# Altium integrated library ON Semi Schottky Diodes & Schottky Rectifiers.IntLib: 755 symbols (part 9 of 17)
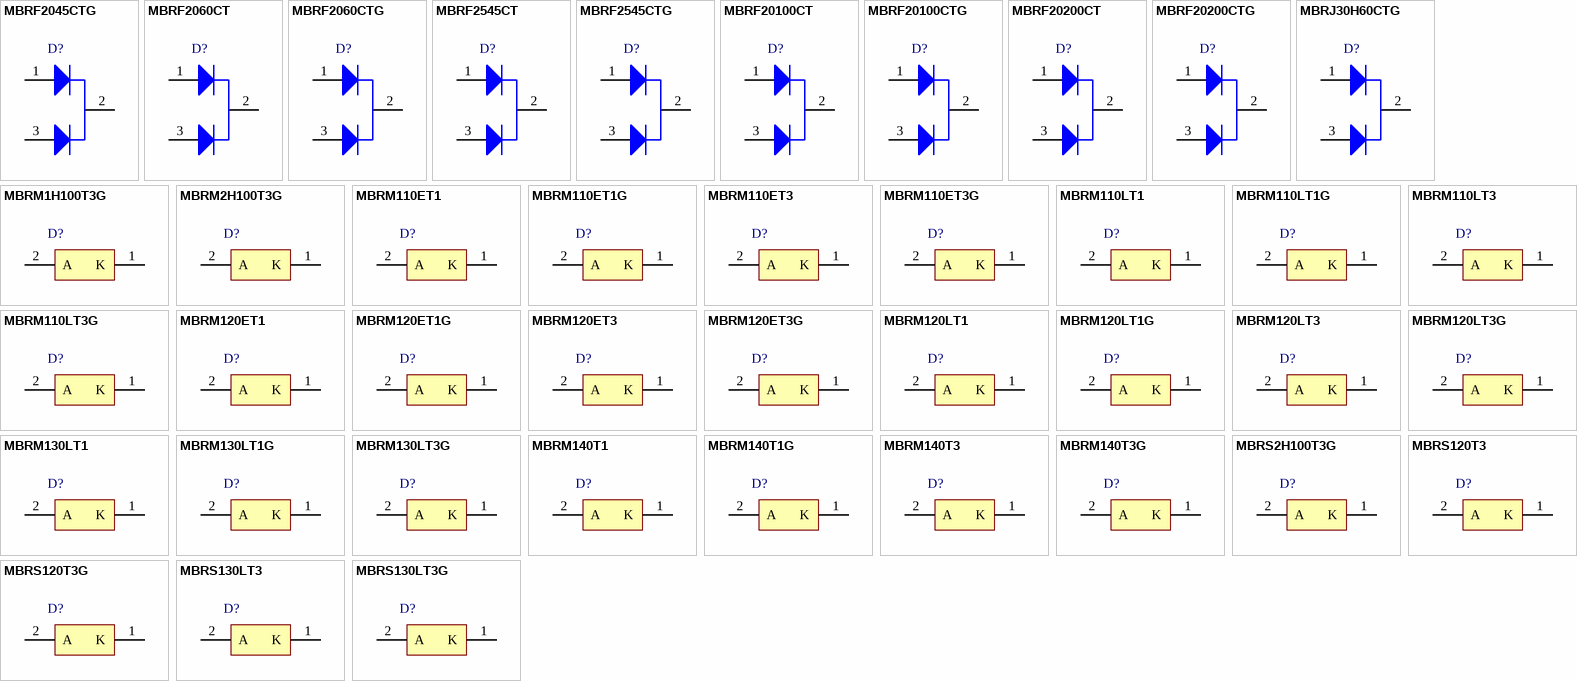
[diagram p27: symbols MBRF2045CTG to MBRS130LT3G]

## MBRM120LT3G
designator D?
Schottky Power Rectifier, 2-Pin Powermite, Pb-Free, Tape and Reel; Manufacturer: On Semiconductor; PartNumber: MBRM120LT3G; Configuration: Single; IFSM Max (A): 50; DatasheetVersion: Rev. 7; PackageVersion: Rev. F, 05/2013; PackageReference: POWERMITE-2-457-04; PackageDescription: 2-Pin POWERMITE, Body 1.965 x 1.9 mm; Supplier 1: Digi-Key; Supplier Part Number 1: MBRM120LT3GOSTR-ND; Supplier 2: Digi-Key; Supplier Part Number 2: MBRM120LT3GOSCT-ND; Supplier 3: Digi-Key; Supplier Part Number 3: MBRM120LT3GOSDKR-ND; Supplier 4: Farnell; Supplier Part Number 4: 1459064; Supplier 5: Farnell; Supplier Part Number 5: 1459064RL; Supplier 6: Newark; Supplier Part Number 6: 48K7497; Supplier 7: Newark; Supplier Part Number 7: 83H7268; Supplier 8: Mouser; Supplier Part Number 8: 863-MBRM120LT3G; Packing: Tape and Reel; RoHS: TRUE; Mounting Technology: Surface Mount; ComponentLink1Description: Manufacturer URL; ComponentLink1URL: http://www.onsemi.com/; ComponentLink2Description: Datasheet; ComponentLink2URL: http://www.onsemi.cn/pub_link/Collateral/MBRM120L-D.PDF; ComponentLink3Description: Package Specification; ComponentLink3URL: http://www.onsemi.com/pub_link/Collateral/457-04.PDF
footprint ONSC-POWERMITE-2-457-04_D_V (POWERMITE, 2-Leads, Body 1.965x1.9mm)
pins: 1 K, 2 A

## MBRM130LT1
designator D?
Schottky Power Rectifier, 2-Pin Powermite, Tape and Reel; Manufacturer: On Semiconductor; PartNumber: MBRM130LT1; Configuration: Single; IFSM Max (A): 50; DatasheetVersion: Rev. 5; PackageVersion: Rev. F, 05/2013; PackageReference: POWERMITE-2-457-04; PackageDescription: 2-Pin POWERMITE, Body 1.965 x 1.9 mm; Supplier 1: Digi-Key; Supplier Part Number 1: MBRM130LT1OSTR-ND; Supplier 2: Digi-Key; Supplier Part Number 2: MBRM130LT1OSCT-ND; Supplier 3: Digi-Key; Supplier Part Number 3: MBRM130LT1OSDKR-ND; Packing: Tape and Reel; RoHS: FALSE; Mounting Technology: Surface Mount; ComponentLink1Description: Manufacturer URL; ComponentLink1URL: http://www.onsemi.com/; ComponentLink2Description: Datasheet; ComponentLink2URL: http://www.onsemi.cn/pub_link/Collateral/MBRM130L-D.PDF; ComponentLink3Description: Package Specification; ComponentLink3URL: http://www.onsemi.com/pub_link/Collateral/457-04.PDF
footprint ONSC-POWERMITE-2-457-04_D_V (POWERMITE, 2-Leads, Body 1.965x1.9mm)
pins: 1 K, 2 A

## MBRM130LT1G
designator D?
Schottky Power Rectifier, 2-Pin Powermite, Pb-Free, Tape and Reel; Manufacturer: On Semiconductor; PartNumber: MBRM130LT1G; Configuration: Single; IFSM Max (A): 50; DatasheetVersion: Rev. 5; PackageVersion: Rev. F, 05/2013; PackageReference: POWERMITE-2-457-04; PackageDescription: 2-Pin POWERMITE, Body 1.965 x 1.9 mm; Supplier 1: Digi-Key; Supplier Part Number 1: MBRM130LT1GOSTR-ND; Supplier 2: Digi-Key; Supplier Part Number 2: MBRM130LT1GOSCT-ND; Supplier 3: Digi-Key; Supplier Part Number 3: MBRM130LT1GOSDKR-ND; Supplier 4: Farnell; Supplier Part Number 4: 1651128RL; Supplier 5: Farnell; Supplier Part Number 5: 1651128; Supplier 6: Mouser; Supplier Part Number 6: 863-MBRM130LT1G; Packing: Tape and Reel; RoHS: TRUE; Mounting Technology: Surface Mount; ComponentLink1Description: Manufacturer URL; ComponentLink1URL: http://www.onsemi.com/; ComponentLink2Description: Datasheet; ComponentLink2URL: http://www.onsemi.cn/pub_link/Collateral/MBRM130L-D.PDF; ComponentLink3Description: Package Specification; ComponentLink3URL: http://www.onsemi.com/pub_link/Collateral/457-04.PDF
footprint ONSC-POWERMITE-2-457-04_D_V (POWERMITE, 2-Leads, Body 1.965x1.9mm)
pins: 1 K, 2 A

## MBRM130LT3G
designator D?
Schottky Power Rectifier, 2-Pin Powermite, Pb-Free, Tape and Reel; Manufacturer: On Semiconductor; PartNumber: MBRM130LT3G; Configuration: Single; IFSM Max (A): 50; DatasheetVersion: Rev. 5; PackageVersion: Rev. F, 05/2013; PackageReference: POWERMITE-2-457-04; PackageDescription: 2-Pin POWERMITE, Body 1.965 x 1.9 mm; Supplier 1: Digi-Key; Supplier Part Number 1: MBRM130LT3GOSTR-ND; Supplier 2: Digi-Key; Supplier Part Number 2: MBRM130LT3GOSCT-ND; Supplier 3: Digi-Key; Supplier Part Number 3: MBRM130LT3GOSDKR-ND; Supplier 4: Farnell; Supplier Part Number 4: 1459066RL; Supplier 5: Farnell; Supplier Part Number 5: 1459066; Supplier 6: Newark; Supplier Part Number 6: 98H0594; Supplier 7: Mouser; Supplier Part Number 7: 863-MBRM130LT3G; Packing: Tape and Reel; RoHS: TRUE; Mounting Technology: Surface Mount; ComponentLink1Description: Manufacturer URL; ComponentLink1URL: http://www.onsemi.com/; ComponentLink2Description: Datasheet; ComponentLink2URL: http://www.onsemi.cn/pub_link/Collateral/MBRM130L-D.PDF; ComponentLink3Description: Package Specification; ComponentLink3URL: http://www.onsemi.com/pub_link/Collateral/457-04.PDF
footprint ONSC-POWERMITE-2-457-04_D_V (POWERMITE, 2-Leads, Body 1.965x1.9mm)
pins: 1 K, 2 A

## MBRM140T1
designator D?
Schottky Power Rectifier, 2-Pin Powermite, Tape and Reel; Manufacturer: On Semiconductor; PartNumber: MBRM140T1; Configuration: Single; IFSM Max (A): 50; DatasheetVersion: Rev. 4; PackageVersion: Rev. F, 05/2013; PackageReference: POWERMITE-2-457-04; PackageDescription: 2-Pin POWERMITE, Body 1.965 x 1.9 mm; Supplier 1: Digi-Key; Supplier Part Number 1: MBRM140T1OSCT-ND; Supplier 2: Digi-Key; Supplier Part Number 2: MBRM140T1OSDKR-ND; Packing: Tape and Reel; RoHS: FALSE; Mounting Technology: Surface Mount; ComponentLink1Description: Manufacturer URL; ComponentLink1URL: http://www.onsemi.com/; ComponentLink2Description: Datasheet; ComponentLink2URL: http://www.onsemi.cn/pub/Collateral/MBRM140-D.PDF; ComponentLink3Description: Package Specification; ComponentLink3URL: http://www.onsemi.com/pub_link/Collateral/457-04.PDF
footprint ONSC-POWERMITE-2-457-04_D_V (POWERMITE, 2-Leads, Body 1.965x1.9mm)
pins: 1 K, 2 A

## MBRM140T1G
designator D?
Schottky Power Rectifier, 2-Pin Powermite, Pb-Free, Tape and Reel; Manufacturer: On Semiconductor; PartNumber: MBRM140T1G; Configuration: Single; IFSM Max (A): 50; DatasheetVersion: Rev. 4; PackageVersion: Rev. F, 05/2013; PackageReference: POWERMITE-2-457-04; PackageDescription: 2-Pin POWERMITE, Body 1.965 x 1.9 mm; Supplier 1: Digi-Key; Supplier Part Number 1: MBRM140T1GOSTR-ND; Supplier 2: Digi-Key; Supplier Part Number 2: MBRM140T1GOSCT-ND; Supplier 3: Digi-Key; Supplier Part Number 3: MBRM140T1GOSDKR-ND; Supplier 4: Farnell; Supplier Part Number 4: 1459067RL; Supplier 5: Farnell; Supplier Part Number 5: 2317660; Supplier 6: Farnell; Supplier Part Number 6: 1459067; Supplier 7: Newark; Supplier Part Number 7: 45J0791; Supplier 8: Newark; Supplier Part Number 8: 84K8737; Supplier 9: Mouser; Supplier Part Number 9: 863-MBRM140T1G; Packing: Tape and Reel; RoHS: TRUE; Mounting Technology: Surface Mount; ComponentLink1Description: Manufacturer URL; ComponentLink1URL: http://www.onsemi.com/; ComponentLink2Description: Datasheet; ComponentLink2URL: http://www.onsemi.cn/pub/Collateral/MBRM140-D.PDF; ComponentLink3Description: Package Specification; ComponentLink3URL: http://www.onsemi.com/pub_link/Collateral/457-04.PDF
footprint ONSC-POWERMITE-2-457-04_D_V (POWERMITE, 2-Leads, Body 1.965x1.9mm)
pins: 1 K, 2 A

## MBRM140T3
designator D?
Schottky Power Rectifier, 2-Pin Powermite, Tape and Reel; Manufacturer: On Semiconductor; PartNumber: MBRM140T3; Configuration: Single; IFSM Max (A): 50; DatasheetVersion: Rev. 4; PackageVersion: Rev. F, 05/2013; PackageReference: POWERMITE-2-457-04; PackageDescription: 2-Pin POWERMITE, Body 1.965 x 1.9 mm; Supplier 1: Digi-Key; Supplier Part Number 1: MBRM140T3OSCT-ND; Packing: Tape and Reel; RoHS: FALSE; Mounting Technology: Surface Mount; ComponentLink1Description: Manufacturer URL; ComponentLink1URL: http://www.onsemi.com/; ComponentLink2Description: Datasheet; ComponentLink2URL: http://www.onsemi.cn/pub/Collateral/MBRM140-D.PDF; ComponentLink3Description: Package Specification; ComponentLink3URL: http://www.onsemi.com/pub_link/Collateral/457-04.PDF
footprint ONSC-POWERMITE-2-457-04_D_V (POWERMITE, 2-Leads, Body 1.965x1.9mm)
pins: 1 K, 2 A

## MBRM140T3G
designator D?
Schottky Power Rectifier, 2-Pin Powermite, Pb-Free, Tape and Reel; Manufacturer: On Semiconductor; PartNumber: MBRM140T3G; Configuration: Single; IFSM Max (A): 50; DatasheetVersion: Rev. 4; PackageVersion: Rev. F, 05/2013; PackageReference: POWERMITE-2-457-04; PackageDescription: 2-Pin POWERMITE, Body 1.965 x 1.9 mm; Supplier 1: Digi-Key; Supplier Part Number 1: MBRM140T3GOSTR-ND; Supplier 2: Digi-Key; Supplier Part Number 2: MBRM140T3GOSCT-ND; Supplier 3: Digi-Key; Supplier Part Number 3: MBRM140T3GOSDKR-ND; Supplier 4: Farnell; Supplier Part Number 4: 1459068RL; Supplier 5: Farnell; Supplier Part Number 5: 1459068; Supplier 6: Newark; Supplier Part Number 6: 83H7269; Supplier 7: Mouser; Supplier Part Number 7: 863-MBRM140T3G; Packing: Tape and Reel; RoHS: TRUE; Mounting Technology: Surface Mount; ComponentLink1Description: Manufacturer URL; ComponentLink1URL: http://www.onsemi.com/; ComponentLink2Description: Datasheet; ComponentLink2URL: http://www.onsemi.cn/pub/Collateral/MBRM140-D.PDF; ComponentLink3Description: Package Specification; ComponentLink3URL: http://www.onsemi.com/pub_link/Collateral/457-04.PDF
footprint ONSC-POWERMITE-2-457-04_D_V (POWERMITE, 2-Leads, Body 1.965x1.9mm)
pins: 1 K, 2 A

## MBRS2H100T3G
designator D?
Schottky Power Rectifier, 2-Pin SMB, Pb-Free, Tape and Reel; Manufacturer: On Semiconductor; PartNumber: MBRS2H100T3G; Configuration: Single; IFSM Max (A): 130; DatasheetVersion: Rev. 8; PackageVersion: Rev. J, 07/2012; PackageReference: SMB-2-403A-03; PackageDescription: 2-Pin Small Molded Package, J-Bend Lead, Body 4.33 x 3.625 mm; Supplier 1: Digi-Key; Supplier Part Number 1: MBRS2H100T3GOSTR-ND; Supplier 2: Digi-Key; Supplier Part Number 2: MBRS2H100T3GOSCT-ND; Supplier 3: Digi-Key; Supplier Part Number 3: MBRS2H100T3GOSDKR-ND; Supplier 4: Farnell; Supplier Part Number 4: 2369560; Supplier 5: Farnell; Supplier Part Number 5: 1887078; Supplier 6: Newark; Supplier Part Number 6: 50M2084; Supplier 7: Newark; Supplier Part Number 7: 09R9423; Supplier 8: Mouser; Supplier Part Number 8: 863-MBRS2H100T3G; Packing: Tape and Reel; RoHS: TRUE; Mounting Technology: Surface Mount; ComponentLink1Description: Manufacturer URL; ComponentLink1URL: http://www.onsemi.com/; ComponentLink2Description: Datasheet; ComponentLink2URL: http://www.onsemi.cn/pub_link/Collateral/MBRS2H100-D.PDF; ComponentLink3Description: Package Specification; ComponentLink3URL: http://www.onsemi.com/pub_link/Collateral/403A-03.PDF
footprint ONSC-SMB-2-403A-03_V (Molded, 2-Leads, Body 4.6x3.95mm)
pins: 1 K, 2 A

## MBRS120T3
designator D?
Schottky Power Rectifier, 2-Pin SMB, Tape and Reel; Manufacturer: On Semiconductor; PartNumber: MBRS120T3; Configuration: Single; IFSM Max (A): 40; DatasheetVersion: Rev. 7; PackageVersion: Rev. H, 05/2011; PackageReference: SMB-2-403A-03_H; PackageDescription: 2-Pin Small Molded Package, J-Bend Lead, Body 4.33 x 3.625 mm; Supplier 1: Digi-Key; Supplier Part Number 1: MBRS120T3OSCT-ND; Supplier 2: Digi-Key; Supplier Part Number 2: MBRS120T3OSDKR-ND; Packing: Tape and Reel; RoHS: FALSE; Mounting Technology: Surface Mount; ComponentLink1Description: Manufacturer URL; ComponentLink1URL: http://www.onsemi.com/; ComponentLink2Description: Datasheet; ComponentLink2URL: http://www.onsemi.cn/pub_link/Collateral/MBRS120T3-D.PDF; ComponentLink3Description: Package Specification; ComponentLink3URL: http://www.onsemi.com/pub_link/Collateral/1SMB5913BT3-D.PDF
footprint ONSC-SMB-2-403A-03_H_V (Molded, 2-Leads, Body 4.6x3.95mm)
pins: 1 K, 2 A

## MBRS120T3G
designator D?
Schottky Power Rectifier, 2-Pin SMB, Pb-Free, Tape and Reel; Manufacturer: On Semiconductor; PartNumber: MBRS120T3G; Configuration: Single; IFSM Max (A): 40; DatasheetVersion: Rev. 7; PackageVersion: Rev. H, 05/2011; PackageReference: SMB-2-403A-03_H; PackageDescription: 2-Pin Small Molded Package, J-Bend Lead, Body 4.33 x 3.625 mm; Supplier 1: Digi-Key; Supplier Part Number 1: MBRS120T3GOSTR-ND; Supplier 2: Digi-Key; Supplier Part Number 2: MBRS120T3GOSCT-ND; Supplier 3: Digi-Key; Supplier Part Number 3: MBRS120T3GOSDKR-ND; Supplier 4: Farnell; Supplier Part Number 4: 1459069; Supplier 5: Farnell; Supplier Part Number 5: 1459069RL; Supplier 6: Farnell; Supplier Part Number 6: 2370809; Supplier 7: Newark; Supplier Part Number 7: 98H0595; Supplier 8: Newark; Supplier Part Number 8: 67R1311; Supplier 9: Mouser; Supplier Part Number 9: 863-MBRS120T3G; Packing: Tape and Reel; RoHS: TRUE; Mounting Technology: Surface Mount; ComponentLink1Description: Manufacturer URL; ComponentLink1URL: http://www.onsemi.com/; ComponentLink2Description: Datasheet; ComponentLink2URL: http://www.onsemi.cn/pub_link/Collateral/MBRS120T3-D.PDF; ComponentLink3Description: Package Specification; ComponentLink3URL: http://www.onsemi.com/pub_link/Collateral/1SMB5913BT3-D.PDF
footprint ONSC-SMB-2-403A-03_H_V (Molded, 2-Leads, Body 4.6x3.95mm)
pins: 1 K, 2 A

## MBRS130LT3
designator D?
Schottky Power Rectifier, Surface Mount Power Package, 2-Pin SMB, Tape and Reel; Manufacturer: On Semiconductor; PartNumber: MBRS130LT3; Configuration: Single; IFSM Max (A): 40; DatasheetVersion: Rev. 9; PackageVersion: Rev. H, 05/2011; PackageReference: SMB-2-403A-03_H; PackageDescription: 2-Pin Small Molded Package, J-Bend Lead, Body 4.33 x 3.625 mm; Supplier 1: Digi-Key; Supplier Part Number 1: MBRS130LT3OSCT-ND; Supplier 2: Digi-Key; Supplier Part Number 2: MBRS130LT3OSDKR-ND; Packing: Tape and Reel; RoHS: FALSE; Mounting Technology: Surface Mount; ComponentLink1Description: Manufacturer URL; ComponentLink1URL: http://www.onsemi.com/; ComponentLink2Description: Datasheet; ComponentLink2URL: http://www.onsemi.cn/pub_link/Collateral/MBRS130LT3-D.PDF; ComponentLink3Description: Package Specification; ComponentLink3URL: http://www.onsemi.com/pub_link/Collateral/1SMB5913BT3-D.PDF
footprint ONSC-SMB-2-403A-03_H_V (Molded, 2-Leads, Body 4.6x3.95mm)
pins: 1 K, 2 A

## MBRS130LT3G
designator D?
Schottky Power Rectifier, Surface Mount Power Package, 2-Pin SMB, Pb-Free, Tape and Reel; Manufacturer: On Semiconductor; PartNumber: MBRS130LT3G; Configuration: Single; IFSM Max (A): 40; DatasheetVersion: Rev. 9; PackageVersion: Rev. H, 05/2011; PackageReference: SMB-2-403A-03_H; PackageDescription: 2-Pin Small Molded Package, J-Bend Lead, Body 4.33 x 3.625 mm; Supplier 1: Digi-Key; Supplier Part Number 1: MBRS130LT3GOSTR-ND; Supplier 2: Digi-Key; Supplier Part Number 2: MBRS130LT3GOSCT-ND; Supplier 3: Digi-Key; Supplier Part Number 3: MBRS130LT3GOSDKR-ND; Supplier 4: Farnell; Supplier Part Number 4: 2317651; Supplier 5: Farnell; Supplier Part Number 5: 1562296; Supplier 6: Farnell; Supplier Part Number 6: 2125539; Supplier 7: Newark; Supplier Part Number 7: 34P0442; Supplier 8: Newark; Supplier Part Number 8: 67H6689; Supplier 9: Newark; Supplier Part Number 9: 28X7853; Supplier 10: Mouser; Supplier Part Number 10: 863-MBRS130LT3G; Packing: Tape and Reel; RoHS: TRUE; Mounting Technology: Surface Mount; ComponentLink1Description: Manufacturer URL; ComponentLink1URL: http://www.onsemi.com/; ComponentLink2Description: Datasheet; ComponentLink2URL: http://www.onsemi.cn/pub_link/Collateral/MBRS130LT3-D.PDF; ComponentLink3Description: Package Specification; ComponentLink3URL: http://www.onsemi.com/pub_link/Collateral/1SMB5913BT3-D.PDF
footprint ONSC-SMB-2-403A-03_H_V (Molded, 2-Leads, Body 4.6x3.95mm)
pins: 1 K, 2 A

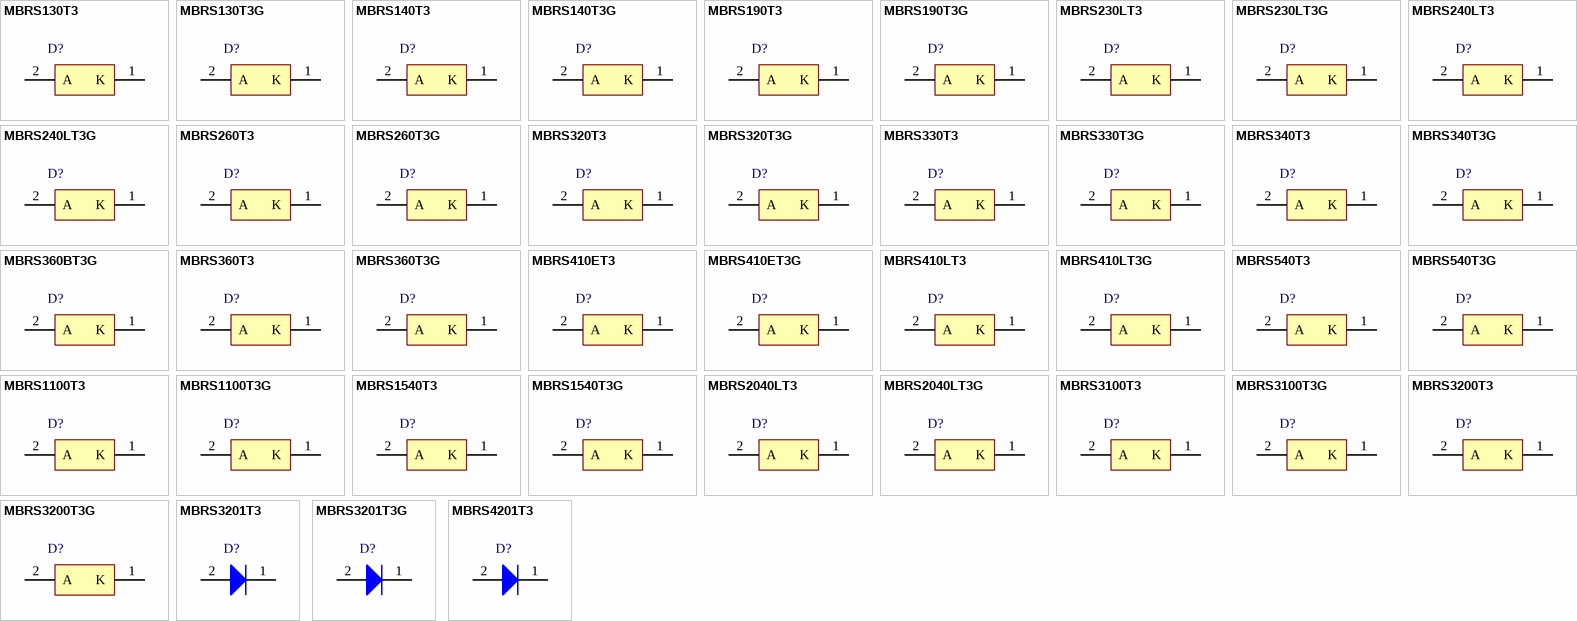
[diagram p10: symbols MBRS130T3 to MBRS4201T3]

## MBRS130T3
designator D?
Schottky Power Rectifier, 2-Pin SMB, Tape and Reel; Manufacturer: On Semiconductor; PartNumber: MBRS130T3; Configuration: Single; IFSM Max (A): 40; DatasheetVersion: Rev. 7; PackageVersion: Rev. J, 07/2012; PackageReference: SMB-2-403A-03; PackageDescription: 2-Pin Small Molded Package, J-Bend Lead, Body 4.33 x 3.625 mm; Supplier 1: Digi-Key; Supplier Part Number 1: MBRS130T3OSTR-ND; Supplier 2: Digi-Key; Supplier Part Number 2: MBRS130T3OSCT-ND; Supplier 3: Digi-Key; Supplier Part Number 3: MBRS130T3OSDKR-ND; Packing: Tape and Reel; RoHS: FALSE; Mounting Technology: Surface Mount; ComponentLink1Description: Manufacturer URL; ComponentLink1URL: http://www.onsemi.com/; ComponentLink2Description: Datasheet; ComponentLink2URL: http://www.onsemi.cn/pub_link/Collateral/MBRS130T3-D.PDF; ComponentLink3Description: Package Specification; ComponentLink3URL: http://www.onsemi.com/pub_link/Collateral/403A-03.PDF
footprint ONSC-SMB-2-403A-03_V (Molded, 2-Leads, Body 4.6x3.95mm)
pins: 1 K, 2 A

## MBRS130T3G
designator D?
Schottky Power Rectifier, 2-Pin SMB, Pb-Free, Tape and Reel; Manufacturer: On Semiconductor; PartNumber: MBRS130T3G; Configuration: Single; IFSM Max (A): 40; DatasheetVersion: Rev. 7; PackageVersion: Rev. J, 07/2012; PackageReference: SMB-2-403A-03; PackageDescription: 2-Pin Small Molded Package, J-Bend Lead, Body 4.33 x 3.625 mm; Supplier 1: Digi-Key; Supplier Part Number 1: MBRS130T3GOSTR-ND; Supplier 2: Digi-Key; Supplier Part Number 2: MBRS130T3GOSCT-ND; Supplier 3: Digi-Key; Supplier Part Number 3: MBRS130T3GOSDKR-ND; Supplier 4: Farnell; Supplier Part Number 4: 1459070; Supplier 5: Farnell; Supplier Part Number 5: 1459070RL; Supplier 6: Farnell; Supplier Part Number 6: 2317693; Supplier 7: Newark; Supplier Part Number 7: 83H7271; Supplier 8: Newark; Supplier Part Number 8: 67R1312; Supplier 9: Mouser; Supplier Part Number 9: 863-MBRS130T3G; Packing: Tape and Reel; RoHS: TRUE; Mounting Technology: Surface Mount; ComponentLink1Description: Manufacturer URL; ComponentLink1URL: http://www.onsemi.com/; ComponentLink2Description: Datasheet; ComponentLink2URL: http://www.onsemi.cn/pub_link/Collateral/MBRS130T3-D.PDF; ComponentLink3Description: Package Specification; ComponentLink3URL: http://www.onsemi.com/pub_link/Collateral/403A-03.PDF
footprint ONSC-SMB-2-403A-03_V (Molded, 2-Leads, Body 4.6x3.95mm)
pins: 1 K, 2 A

## MBRS140T3
designator D?
Schottky Power Rectifier, 2-Pin SMB, Tape and Reel; Manufacturer: On Semiconductor; PartNumber: MBRS140T3; Configuration: Single; IFSM Max (A): 40; DatasheetVersion: Rev. 9; PackageVersion: Rev. H, 05/2011; PackageReference: SMB-2-403A-03_H; PackageDescription: 2-Pin Small Molded Package, J-Bend Lead, Body 4.33 x 3.625 mm; Supplier 1: Digi-Key; Supplier Part Number 1: MBRS140T3OSCT-ND; Supplier 2: Digi-Key; Supplier Part Number 2: MBRS140T3OSDKR-ND; Packing: Tape and Reel; RoHS: FALSE; Mounting Technology: Surface Mount; ComponentLink1Description: Manufacturer URL; ComponentLink1URL: http://www.onsemi.com/; ComponentLink2Description: Datasheet; ComponentLink2URL: http://www.onsemi.cn/pub_link/Collateral/MBRS140T3-D.PDF; ComponentLink3Description: Package Specification; ComponentLink3URL: http://www.onsemi.com/pub_link/Collateral/1SMB5913BT3-D.PDF
footprint ONSC-SMB-2-403A-03_H_V (Molded, 2-Leads, Body 4.6x3.95mm)
pins: 1 K, 2 A

## MBRS140T3G
designator D?
Schottky Power Rectifier, 2-Pin SMB, Pb-Free, Tape and Reel; Manufacturer: On Semiconductor; PartNumber: MBRS140T3G; Configuration: Single; IFSM Max (A): 40; DatasheetVersion: Rev. 9; PackageVersion: Rev. H, 05/2011; PackageReference: SMB-2-403A-03_H; PackageDescription: 2-Pin Small Molded Package, J-Bend Lead, Body 4.33 x 3.625 mm; Supplier 1: Digi-Key; Supplier Part Number 1: MBRS140T3GOSTR-ND; Supplier 2: Digi-Key; Supplier Part Number 2: MBRS140T3GOSCT-ND; Supplier 3: Digi-Key; Supplier Part Number 3: MBRS140T3GOSDKR-ND; Supplier 4: Farnell; Supplier Part Number 4: 2317683; Supplier 5: Farnell; Supplier Part Number 5: 9557237RL; Supplier 6: Farnell; Supplier Part Number 6: 9557237; Supplier 7: Newark; Supplier Part Number 7: 67R1313; Supplier 8: Newark; Supplier Part Number 8: 83H7272; Supplier 9: Newark; Supplier Part Number 9: 28X7854; Supplier 10: Mouser; Supplier Part Number 10: 863-MBRS140T3G; Packing: Tape and Reel; RoHS: TRUE; Mounting Technology: Surface Mount; ComponentLink1Description: Manufacturer URL; ComponentLink1URL: http://www.onsemi.com/; ComponentLink2Description: Datasheet; ComponentLink2URL: http://www.onsemi.cn/pub_link/Collateral/MBRS140T3-D.PDF; ComponentLink3Description: Package Specification; ComponentLink3URL: http://www.onsemi.com/pub_link/Collateral/1SMB5913BT3-D.PDF
footprint ONSC-SMB-2-403A-03_H_V (Molded, 2-Leads, Body 4.6x3.95mm)
pins: 1 K, 2 A

## MBRS190T3
designator D?
Schottky Power Rectifier, Surface Mount Power Package, 2-Pin SMB, Tape and Reel; Manufacturer: On Semiconductor; PartNumber: MBRS190T3; Configuration: Single; IFSM Max (A): 50; DatasheetVersion: Rev. 10; PackageVersion: Rev. H, 05/2011; PackageReference: SMB-2-403A-03_H; PackageDescription: 2-Pin Small Molded Package, J-Bend Lead, Body 4.33 x 3.625 mm; Supplier 1: Digi-Key; Supplier Part Number 1: MBRS190T3OSCT-ND; Supplier 2: Digi-Key; Supplier Part Number 2: MBRS190T3OSDKR-ND; Packing: Tape and Reel; RoHS: FALSE; Mounting Technology: Surface Mount; ComponentLink1Description: Manufacturer URL; ComponentLink1URL: http://www.onsemi.com/; ComponentLink2Description: Datasheet; ComponentLink2URL: http://www.onsemi.cn/pub_link/Collateral/MBRS1100T3-D.PDF; ComponentLink3Description: Package Specification; ComponentLink3URL: http://www.onsemi.com/pub_link/Collateral/1SMB5913BT3-D.PDF
footprint ONSC-SMB-2-403A-03_H_V (Molded, 2-Leads, Body 4.6x3.95mm)
pins: 1 K, 2 A

## MBRS190T3G
designator D?
Schottky Power Rectifier, Surface Mount Power Package, 2-Pin SMB, Pb-Free, Tape and Reel; Manufacturer: On Semiconductor; PartNumber: MBRS190T3G; Configuration: Single; IFSM Max (A): 50; DatasheetVersion: Rev. 10; PackageVersion: Rev. H, 05/2011; PackageReference: SMB-2-403A-03_H; PackageDescription: 2-Pin Small Molded Package, J-Bend Lead, Body 4.33 x 3.625 mm; Supplier 1: Digi-Key; Supplier Part Number 1: MBRS190T3GOSTR-ND; Supplier 2: Digi-Key; Supplier Part Number 2: MBRS190T3GOSCT-ND; Supplier 3: Digi-Key; Supplier Part Number 3: MBRS190T3GOSDKR-ND; Supplier 4: Farnell; Supplier Part Number 4: 1459071RL; Supplier 5: Farnell; Supplier Part Number 5: 1459071; Supplier 6: Newark; Supplier Part Number 6: 71J5251; Supplier 7: Mouser; Supplier Part Number 7: 863-MBRS190T3G; Packing: Tape and Reel; RoHS: TRUE; Mounting Technology: Surface Mount; ComponentLink1Description: Manufacturer URL; ComponentLink1URL: http://www.onsemi.com/; ComponentLink2Description: Datasheet; ComponentLink2URL: http://www.onsemi.cn/pub_link/Collateral/MBRS1100T3-D.PDF; ComponentLink3Description: Package Specification; ComponentLink3URL: http://www.onsemi.com/pub_link/Collateral/1SMB5913BT3-D.PDF
footprint ONSC-SMB-2-403A-03_H_V (Molded, 2-Leads, Body 4.6x3.95mm)
pins: 1 K, 2 A

## MBRS230LT3
designator D?
Schottky Power Rectifier, 2-Pin SMB, Tape and Reel; Manufacturer: On Semiconductor; PartNumber: MBRS230LT3; Configuration: Single; IFSM Max (A): 40; DatasheetVersion: Rev. 3; PackageVersion: Rev. D; PackageReference: SMB-2-403A-03_D; PackageDescription: 2-Pin Small Molded Package, J-Bend Lead, Body 4.315 x 3.555 mm; Supplier 1: Digi-Key; Supplier Part Number 1: MBRS230LT3-ND; Packing: Tape and Reel; RoHS: FALSE; Mounting Technology: Surface Mount; ComponentLink1Description: Manufacturer URL; ComponentLink1URL: http://www.onsemi.com/; ComponentLink2Description: Datasheet; ComponentLink2URL: http://www.onsemi.cn/pub_link/Collateral/MBRS230LT3-D.PDF; ComponentLink3Description: Package Specification; ComponentLink3URL: http://www.onsemi.cn/pub_link/Collateral/MBRS230LT3-D.PDF
footprint ONSC-SMB-2-403A-03_D_V (Molded, 2-Leads, Body 4.57x3.81mm)
pins: 1 K, 2 A

## MBRS230LT3G
designator D?
Schottky Power Rectifier, 2-Pin SMB, Pb-Free, Tape and Reel; Manufacturer: On Semiconductor; PartNumber: MBRS230LT3G; Configuration: Single; IFSM Max (A): 40; DatasheetVersion: Rev. 3; PackageVersion: Rev. D; PackageReference: SMB-2-403A-03_D; PackageDescription: 2-Pin Small Molded Package, J-Bend Lead, Body 4.315 x 3.555 mm; Supplier 1: Digi-Key; Supplier Part Number 1: MBRS230LT3GOSTR-ND; Supplier 2: Digi-Key; Supplier Part Number 2: MBRS230LT3GOSCT-ND; Supplier 3: Digi-Key; Supplier Part Number 3: MBRS230LT3GOSDKR-ND; Supplier 4: Farnell; Supplier Part Number 4: 1885831; Supplier 5: Newark; Supplier Part Number 5: 45J0792; Supplier 6: Newark; Supplier Part Number 6: 10N9421; Supplier 7: Mouser; Supplier Part Number 7: 863-MBRS230LT3G; Packing: Tape and Reel; RoHS: TRUE; Mounting Technology: Surface Mount; ComponentLink1Description: Manufacturer URL; ComponentLink1URL: http://www.onsemi.com/; ComponentLink2Description: Datasheet; ComponentLink2URL: http://www.onsemi.cn/pub_link/Collateral/MBRS230LT3-D.PDF; ComponentLink3Description: Package Specification; ComponentLink3URL: http://www.onsemi.cn/pub_link/Collateral/MBRS230LT3-D.PDF
footprint ONSC-SMB-2-403A-03_D_V (Molded, 2-Leads, Body 4.57x3.81mm)
pins: 1 K, 2 A

## MBRS240LT3
designator D?
Schottky Power Rectifier, 2-Pin SMB, Tape and Reel; Manufacturer: On Semiconductor; PartNumber: MBRS240LT3; Configuration: Single; IFSM Max (A): 25; DatasheetVersion: Rev. 7; PackageVersion: Rev. H, 05/2011; PackageReference: SMB-2-403A-03_H; PackageDescription: 2-Pin Small Molded Package, J-Bend Lead, Body 4.33 x 3.625 mm; Supplier 1: Digi-Key; Supplier Part Number 1: MBRS240LT3OSCT-ND; Supplier 2: Digi-Key; Supplier Part Number 2: MBRS240LT3OSDKR-ND; Packing: Tape and Reel; RoHS: FALSE; Mounting Technology: Surface Mount; ComponentLink1Description: Manufacturer URL; ComponentLink1URL: http://www.onsemi.com/; ComponentLink2Description: Datasheet; ComponentLink2URL: http://www.onsemi.cn/pub_link/Collateral/MBRS240LT3-D.PDF; ComponentLink3Description: Package Specification; ComponentLink3URL: http://www.onsemi.com/pub_link/Collateral/1SMB5913BT3-D.PDF
footprint ONSC-SMB-2-403A-03_H_V (Molded, 2-Leads, Body 4.6x3.95mm)
pins: 1 K, 2 A

## MBRS240LT3G
designator D?
Schottky Power Rectifier, 2-Pin SMB, Pb-Free, Tape and Reel; Manufacturer: On Semiconductor; PartNumber: MBRS240LT3G; Configuration: Single; IFSM Max (A): 25; DatasheetVersion: Rev. 7; PackageVersion: Rev. H, 05/2011; PackageReference: SMB-2-403A-03_H; PackageDescription: 2-Pin Small Molded Package, J-Bend Lead, Body 4.33 x 3.625 mm; Supplier 1: Digi-Key; Supplier Part Number 1: MBRS240LT3GOSTR-ND; Supplier 2: Digi-Key; Supplier Part Number 2: MBRS240LT3GOSCT-ND; Supplier 3: Digi-Key; Supplier Part Number 3: MBRS240LT3GOSDKR-ND; Supplier 4: Farnell; Supplier Part Number 4: 1459073; Supplier 5: Farnell; Supplier Part Number 5: 1459073RL; Supplier 6: Newark; Supplier Part Number 6: 67R1315; Supplier 7: Newark; Supplier Part Number 7: 83H7274; Supplier 8: Mouser; Supplier Part Number 8: 863-MBRS240LT3G; Packing: Tape and Reel; RoHS: TRUE; Mounting Technology: Surface Mount; ComponentLink1Description: Manufacturer URL; ComponentLink1URL: http://www.onsemi.com/; ComponentLink2Description: Datasheet; ComponentLink2URL: http://www.onsemi.cn/pub_link/Collateral/MBRS240LT3-D.PDF; ComponentLink3Description: Package Specification; ComponentLink3URL: http://www.onsemi.com/pub_link/Collateral/1SMB5913BT3-D.PDF
footprint ONSC-SMB-2-403A-03_H_V (Molded, 2-Leads, Body 4.6x3.95mm)
pins: 1 K, 2 A

## MBRS260T3
designator D?
Schottky Power Rectifier, 2-Pin SMB, Tape and Reel; Manufacturer: On Semiconductor; PartNumber: MBRS260T3; Configuration: Single; IFSM Max (A): 60; DatasheetVersion: Rev. 7; PackageVersion: Rev. J, 07/2012; PackageReference: SMB-2-403A-03; PackageDescription: 2-Pin Small Molded Package, J-Bend Lead, Body 4.33 x 3.625 mm; Supplier 1: Digi-Key; Supplier Part Number 1: MBRS260T3OS-ND; Packing: Tape and Reel; RoHS: FALSE; Mounting Technology: Surface Mount; ComponentLink1Description: Manufacturer URL; ComponentLink1URL: http://www.onsemi.com/; ComponentLink2Description: Datasheet; ComponentLink2URL: http://www.onsemi.com/pub_link/Collateral/MBRS260T3-D.PDF; ComponentLink3Description: Package Specification; ComponentLink3URL: http://www.onsemi.com/pub_link/Collateral/403A-03.PDF
footprint ONSC-SMB-2-403A-03_V (Molded, 2-Leads, Body 4.6x3.95mm)
pins: 1 K, 2 A

## MBRS260T3G
designator D?
Schottky Power Rectifier, 2-Pin SMB, Pb-Free, Tape and Reel; Manufacturer: On Semiconductor; PartNumber: MBRS260T3G; Configuration: Single; IFSM Max (A): 60; DatasheetVersion: Rev. 7; PackageVersion: Rev. J, 07/2012; PackageReference: SMB-2-403A-03; PackageDescription: 2-Pin Small Molded Package, J-Bend Lead, Body 4.33 x 3.625 mm; Supplier 1: Digi-Key; Supplier Part Number 1: MBRS260T3GOSTR-ND; Supplier 2: Digi-Key; Supplier Part Number 2: MBRS260T3GOSCT-ND; Supplier 3: Digi-Key; Supplier Part Number 3: MBRS260T3GOSDKR-ND; Supplier 4: Farnell; Supplier Part Number 4: 1459074RL; Supplier 5: Farnell; Supplier Part Number 5: 1459074; Supplier 6: Newark; Supplier Part Number 6: 98H0597; Supplier 7: Mouser; Supplier Part Number 7: 863-MBRS260T3G; Packing: Tape and Reel; RoHS: TRUE; Mounting Technology: Surface Mount; ComponentLink1Description: Manufacturer URL; ComponentLink1URL: http://www.onsemi.com/; ComponentLink2Description: Datasheet; ComponentLink2URL: http://www.onsemi.com/pub_link/Collateral/MBRS260T3-D.PDF; ComponentLink3Description: Package Specification; ComponentLink3URL: http://www.onsemi.com/pub_link/Collateral/403A-03.PDF
footprint ONSC-SMB-2-403A-03_V (Molded, 2-Leads, Body 4.6x3.95mm)
pins: 1 K, 2 A

## MBRS320T3
designator D?
Schottky Power Rectifier, 2-Pin SMC, Tape and Reel; Manufacturer: On Semiconductor; PartNumber: MBRS320T3; Configuration: Single; IFSM Max (A): 80; DatasheetVersion: Rev. 11; PackageVersion: Rev. E, 08/2005; PackageReference: SMC-2-403-03; PackageDescription: 2-Pin Small Molded Package, J-Bend Lead, Body 5.845 x 6.855 mm; Supplier 1: Digi-Key; Supplier Part Number 1: MBRS320T3OSCT-ND; Packing: Tape and Reel; RoHS: FALSE; Mounting Technology: Surface Mount; ComponentLink1Description: Manufacturer URL; ComponentLink1URL: http://www.onsemi.com/; ComponentLink2Description: Datasheet; ComponentLink2URL: http://www.onsemi.cn/pub_link/Collateral/MBRS340T3-D.PDF; ComponentLink3Description: Package Specification; ComponentLink3URL: http://www.onsemi.com/pub_link/Collateral/403-03.PDF
footprint ONSC-SMC-2-403-03_V (Molded, 2-Leads, Body 6.86x5.84mm)
pins: 1 K, 2 A

## MBRS320T3G
designator D?
Schottky Power Rectifier, 2-Pin SMC, Pb-Free, Tape and Reel; Manufacturer: On Semiconductor; PartNumber: MBRS320T3G; Configuration: Single; IFSM Max (A): 80; DatasheetVersion: Rev. 11; PackageVersion: Rev. E, 08/2005; PackageReference: SMC-2-403-03; PackageDescription: 2-Pin Small Molded Package, J-Bend Lead, Body 5.845 x 6.855 mm; Supplier 1: Digi-Key; Supplier Part Number 1: MBRS320T3GOSTR-ND; Supplier 2: Digi-Key; Supplier Part Number 2: MBRS320T3GOSCT-ND; Supplier 3: Digi-Key; Supplier Part Number 3: MBRS320T3GOSDKR-ND; Supplier 4: Farnell; Supplier Part Number 4: 1459076RL; Supplier 5: Farnell; Supplier Part Number 5: 1459076; Supplier 6: Farnell; Supplier Part Number 6: 2370810; Supplier 7: Newark; Supplier Part Number 7: 67R1317; Supplier 8: Newark; Supplier Part Number 8: 45J0794; Supplier 9: Mouser; Supplier Part Number 9: 863-MBRS320T3G; Packing: Tape and Reel; RoHS: TRUE; Mounting Technology: Surface Mount; ComponentLink1Description: Manufacturer URL; ComponentLink1URL: http://www.onsemi.com/; ComponentLink2Description: Datasheet; ComponentLink2URL: http://www.onsemi.cn/pub_link/Collateral/MBRS340T3-D.PDF; ComponentLink3Description: Package Specification; ComponentLink3URL: http://www.onsemi.com/pub_link/Collateral/403-03.PDF
footprint ONSC-SMC-2-403-03_V (Molded, 2-Leads, Body 6.86x5.84mm)
pins: 1 K, 2 A

## MBRS330T3
designator D?
Schottky Power Rectifier, 2-Pin SMC, Tape and Reel; Manufacturer: On Semiconductor; PartNumber: MBRS330T3; Configuration: Single; IFSM Max (A): 80; DatasheetVersion: Rev. 11; PackageVersion: Rev. E, 08/2005; PackageReference: SMC-2-403-03; PackageDescription: 2-Pin Small Molded Package, J-Bend Lead, Body 5.845 x 6.855 mm; Supplier 1: Digi-Key; Supplier Part Number 1: MBRS330T3OSTR-ND; Supplier 2: Digi-Key; Supplier Part Number 2: MBRS330T3OSCT-ND; Packing: Tape and Reel; RoHS: FALSE; Mounting Technology: Surface Mount; ComponentLink1Description: Manufacturer URL; ComponentLink1URL: http://www.onsemi.com/; ComponentLink2Description: Datasheet; ComponentLink2URL: http://www.onsemi.cn/pub_link/Collateral/MBRS340T3-D.PDF; ComponentLink3Description: Package Specification; ComponentLink3URL: http://www.onsemi.com/pub_link/Collateral/403-03.PDF
footprint ONSC-SMC-2-403-03_V (Molded, 2-Leads, Body 6.86x5.84mm)
pins: 1 K, 2 A

## MBRS330T3G
designator D?
Schottky Power Rectifier, 2-Pin SMC, Pb-Free, Tape and Reel; Manufacturer: On Semiconductor; PartNumber: MBRS330T3G; Configuration: Single; IFSM Max (A): 80; DatasheetVersion: Rev. 11; PackageVersion: Rev. E, 08/2005; PackageReference: SMC-2-403-03; PackageDescription: 2-Pin Small Molded Package, J-Bend Lead, Body 5.845 x 6.855 mm; Supplier 1: Digi-Key; Supplier Part Number 1: MBRS330T3GOSTR-ND; Supplier 2: Digi-Key; Supplier Part Number 2: MBRS330T3GOSCT-ND; Supplier 3: Digi-Key; Supplier Part Number 3: MBRS330T3GOSDKR-ND; Supplier 4: Farnell; Supplier Part Number 4: 1459078; Supplier 5: Farnell; Supplier Part Number 5: 1459078RL; Supplier 6: Farnell; Supplier Part Number 6: 2370811; Supplier 7: Newark; Supplier Part Number 7: 67R1318; Supplier 8: Newark; Supplier Part Number 8: 88H4681; Supplier 9: Mouser; Supplier Part Number 9: 863-MBRS330T3G; Packing: Tape and Reel; RoHS: TRUE; Mounting Technology: Surface Mount; ComponentLink1Description: Manufacturer URL; ComponentLink1URL: http://www.onsemi.com/; ComponentLink2Description: Datasheet; ComponentLink2URL: http://www.onsemi.cn/pub_link/Collateral/MBRS340T3-D.PDF; ComponentLink3Description: Package Specification; ComponentLink3URL: http://www.onsemi.com/pub_link/Collateral/403-03.PDF
footprint ONSC-SMC-2-403-03_V (Molded, 2-Leads, Body 6.86x5.84mm)
pins: 1 K, 2 A

## MBRS340T3
designator D?
Schottky Power Rectifier, 2-Pin SMC, Tape and Reel; Manufacturer: On Semiconductor; PartNumber: MBRS340T3; Configuration: Single; IFSM Max (A): 80; DatasheetVersion: Rev. 11; PackageVersion: Rev. E, 08/2005; PackageReference: SMC-2-403-03; PackageDescription: 2-Pin Small Molded Package, J-Bend Lead, Body 5.845 x 6.855 mm; Supplier 1: Digi-Key; Supplier Part Number 1: MBRS340T3OSCT-ND; Packing: Tape and Reel; RoHS: FALSE; Mounting Technology: Surface Mount; ComponentLink1Description: Manufacturer URL; ComponentLink1URL: http://www.onsemi.com/; ComponentLink2Description: Datasheet; ComponentLink2URL: http://www.onsemi.cn/pub_link/Collateral/MBRS340T3-D.PDF; ComponentLink3Description: Package Specification; ComponentLink3URL: http://www.onsemi.com/pub_link/Collateral/403-03.PDF
footprint ONSC-SMC-2-403-03_V (Molded, 2-Leads, Body 6.86x5.84mm)
pins: 1 K, 2 A

## MBRS340T3G
designator D?
Schottky Power Rectifier, 2-Pin SMC, Pb-Free, Tape and Reel; Manufacturer: On Semiconductor; PartNumber: MBRS340T3G; Configuration: Single; IFSM Max (A): 80; DatasheetVersion: Rev. 11; PackageVersion: Rev. E, 08/2005; PackageReference: SMC-2-403-03; PackageDescription: 2-Pin Small Molded Package, J-Bend Lead, Body 5.845 x 6.855 mm; Supplier 1: Digi-Key; Supplier Part Number 1: MBRS340T3GOSTR-ND; Supplier 2: Digi-Key; Supplier Part Number 2: MBRS340T3GOSCT-ND; Supplier 3: Digi-Key; Supplier Part Number 3: MBRS340T3GOSDKR-ND; Supplier 4: Farnell; Supplier Part Number 4: 2317648; Supplier 5: Farnell; Supplier Part Number 5: 9557377; Supplier 6: Farnell; Supplier Part Number 6: 9557377RL; Supplier 7: Newark; Supplier Part Number 7: 67R1319; Supplier 8: Newark; Supplier Part Number 8: 83H7275; Supplier 9: Newark; Supplier Part Number 9: 18X9804; Supplier 10: Mouser; Supplier Part Number 10: 863-MBRS340T3G; Packing: Tape and Reel; RoHS: TRUE; Mounting Technology: Surface Mount; ComponentLink1Description: Manufacturer URL; ComponentLink1URL: http://www.onsemi.com/; ComponentLink2Description: Datasheet; ComponentLink2URL: http://www.onsemi.cn/pub_link/Collateral/MBRS340T3-D.PDF; ComponentLink3Description: Package Specification; ComponentLink3URL: http://www.onsemi.com/pub_link/Collateral/403-03.PDF
footprint ONSC-SMC-2-403-03_V (Molded, 2-Leads, Body 6.86x5.84mm)
pins: 1 K, 2 A

## MBRS360BT3G
designator D?
Schottky Power Rectifier, 2-Pin SMB, Pb-Free, Tape and Reel; Manufacturer: On Semiconductor; PartNumber: MBRS360BT3G; Configuration: Single; IFSM Max (A): 125; DatasheetVersion: Rev. 8; PackageVersion: Rev. H, 05/2011; PackageReference: SMB-2-403A-03_H; PackageDescription: 2-Pin Small Molded Package, J-Bend Lead, Body 4.33 x 3.625 mm; Supplier 1: Digi-Key; Supplier Part Number 1: MBRS360BT3GOSTR-ND; Supplier 2: Digi-Key; Supplier Part Number 2: MBRS360BT3GOSCT-ND; Supplier 3: Digi-Key; Supplier Part Number 3: MBRS360BT3GOSDKR-ND; Supplier 4: Farnell; Supplier Part Number 4: 2317398; Supplier 5: Farnell; Supplier Part Number 5: 2317688; Supplier 6: Newark; Supplier Part Number 6: 34M7323; Supplier 7: Newark; Supplier Part Number 7: 55T0909; Supplier 8: Mouser; Supplier Part Number 8: 863-MBRS360BT3G; Packing: Tape and Reel; RoHS: TRUE; Mounting Technology: Surface Mount; ComponentLink1Description: Manufacturer URL; ComponentLink1URL: http://www.onsemi.com/; ComponentLink2Description: Datasheet; ComponentLink2URL: http://www.onsemi.cn/pub_link/Collateral/MBRS360T3-D.PDF; ComponentLink3Description: Package Specification; ComponentLink3URL: http://www.onsemi.com/pub_link/Collateral/1SMB5913BT3-D.PDF
footprint ONSC-SMB-2-403A-03_H_V (Molded, 2-Leads, Body 4.6x3.95mm)
pins: 1 K, 2 A

## MBRS360T3
designator D?
Schottky Power Rectifier, 2-Pin SMC, Tape and Reel; Manufacturer: On Semiconductor; PartNumber: MBRS360T3; Configuration: Single; IFSM Max (A): 125; DatasheetVersion: Rev. 8; PackageVersion: Rev. E, 08/2005; PackageReference: SMC-2-403-03; PackageDescription: 2-Pin Small Molded Package, J-Bend Lead, Body 5.845 x 6.855 mm; Supplier 1: Digi-Key; Supplier Part Number 1: MBRS360T3OSCT-ND; Packing: Tape and Reel; RoHS: FALSE; Mounting Technology: Surface Mount; ComponentLink1Description: Manufacturer URL; ComponentLink1URL: http://www.onsemi.com/; ComponentLink2Description: Datasheet; ComponentLink2URL: http://www.onsemi.cn/pub_link/Collateral/MBRS360T3-D.PDF; ComponentLink3Description: Package Specification; ComponentLink3URL: http://www.onsemi.com/pub_link/Collateral/403-03.PDF
footprint ONSC-SMC-2-403-03_V (Molded, 2-Leads, Body 6.86x5.84mm)
pins: 1 K, 2 A

## MBRS360T3G
designator D?
Schottky Power Rectifier, 2-Pin SMC, Pb-Free, Tape and Reel; Manufacturer: On Semiconductor; PartNumber: MBRS360T3G; Configuration: Single; IFSM Max (A): 125; DatasheetVersion: Rev. 8; PackageVersion: Rev. E, 08/2005; PackageReference: SMC-2-403-03; PackageDescription: 2-Pin Small Molded Package, J-Bend Lead, Body 5.845 x 6.855 mm; Supplier 1: Digi-Key; Supplier Part Number 1: MBRS360T3GOSTR-ND; Supplier 2: Digi-Key; Supplier Part Number 2: MBRS360T3GOSCT-ND; Supplier 3: Digi-Key; Supplier Part Number 3: MBRS360T3GOSDKR-ND; Supplier 4: Farnell; Supplier Part Number 4: 2317653; Supplier 5: Farnell; Supplier Part Number 5: 9556940RL; Supplier 6: Farnell; Supplier Part Number 6: 9556940; Supplier 7: Newark; Supplier Part Number 7: 96K4518; Supplier 8: Newark; Supplier Part Number 8: 83H7276; Supplier 9: Newark; Supplier Part Number 9: 28X7855; Supplier 10: Mouser; Supplier Part Number 10: 863-MBRS360T3G; Packing: Tape and Reel; RoHS: TRUE; Mounting Technology: Surface Mount; ComponentLink1Description: Manufacturer URL; ComponentLink1URL: http://www.onsemi.com/; ComponentLink2Description: Datasheet; ComponentLink2URL: http://www.onsemi.cn/pub_link/Collateral/MBRS360T3-D.PDF; ComponentLink3Description: Package Specification; ComponentLink3URL: http://www.onsemi.com/pub_link/Collateral/403-03.PDF
footprint ONSC-SMC-2-403-03_V (Molded, 2-Leads, Body 6.86x5.84mm)
pins: 1 K, 2 A

## MBRS410ET3
designator D?
Schottky Power Rectifier, 2-Pin SMC, Tape and Reel; Manufacturer: On Semiconductor; PartNumber: MBRS410ET3; Configuration: Single; IFSM Max (A): 250; DatasheetVersion: Rev. 2; PackageVersion: Rev. E, 08/2005; PackageReference: SMC-2-403-03; PackageDescription: 2-Pin Small Molded Package, J-Bend Lead, Body 5.845 x 6.855 mm; Supplier 1: Digi-Key; Supplier Part Number 1: MBRS410ET3OS-ND; Packing: Tape and Reel; RoHS: FALSE; Mounting Technology: Surface Mount; ComponentLink1Description: Manufacturer URL; ComponentLink1URL: http://www.onsemi.com/; ComponentLink2Description: Datasheet; ComponentLink2URL: http://www.onsemi.cn/pub_link/Collateral/MBRS410ET3-D.PDF; ComponentLink3Description: Package Specification; ComponentLink3URL: http://www.onsemi.com/pub_link/Collateral/403-03.PDF
footprint ONSC-SMC-2-403-03_V (Molded, 2-Leads, Body 6.86x5.84mm)
pins: 1 K, 2 A

## MBRS410ET3G
designator D?
Schottky Power Rectifier, 2-Pin SMC, Pb-Free, Tape and Reel; Manufacturer: On Semiconductor; PartNumber: MBRS410ET3G; Configuration: Single; IFSM Max (A): 250; DatasheetVersion: Rev. 2; PackageVersion: Rev. E, 08/2005; PackageReference: SMC-2-403-03; PackageDescription: 2-Pin Small Molded Package, J-Bend Lead, Body 5.845 x 6.855 mm; Supplier 1: Digi-Key; Supplier Part Number 1: MBRS410ET3GOSTR-ND; Supplier 2: Digi-Key; Supplier Part Number 2: MBRS410ET3GOSCT-ND; Supplier 3: Newark; Supplier Part Number 3: 71J5253; Supplier 4: Newark; Supplier Part Number 4: 85W2287; Supplier 5: Mouser; Supplier Part Number 5: 863-MBRS410ET3G; Packing: Tape and Reel; RoHS: TRUE; Mounting Technology: Surface Mount; ComponentLink1Description: Manufacturer URL; ComponentLink1URL: http://www.onsemi.com/; ComponentLink2Description: Datasheet; ComponentLink2URL: http://www.onsemi.cn/pub_link/Collateral/MBRS410ET3-D.PDF; ComponentLink3Description: Package Specification; ComponentLink3URL: http://www.onsemi.com/pub_link/Collateral/403-03.PDF
footprint ONSC-SMC-2-403-03_V (Molded, 2-Leads, Body 6.86x5.84mm)
pins: 1 K, 2 A

## MBRS410LT3
designator D?
Schottky Power Rectifier, 2-Pin SMC, Tape and Reel; Manufacturer: On Semiconductor; PartNumber: MBRS410LT3; Note: 0; Configuration: Single; IFSM Max (A): 150; DatasheetVersion: Rev. 2; PackageVersion: Rev. E, 08/2005; PackageReference: SMC-2-403-03; PackageDescription: 2-Pin Small Molded Package, J-Bend Lead, Body 5.845 x 6.855 mm; Packing: Tape and Reel; RoHS: FALSE; Mounting Technology: Surface Mount; ComponentLink1Description: Manufacturer URL; ComponentLink1URL: http://www.onsemi.com/; ComponentLink2Description: Datasheet; ComponentLink2URL: http://www.onsemi.cn/pub_link/Collateral/MBRS410LT3-D.PDF; ComponentLink3Description: Package Specification; ComponentLink3URL: http://www.onsemi.com/pub_link/Collateral/403-03.PDF
footprint ONSC-SMC-2-403-03_V (Molded, 2-Leads, Body 6.86x5.84mm)
pins: 1 K, 2 A

## MBRS410LT3G
designator D?
Schottky Power Rectifier, 2-Pin SMC, Pb-Free, Tape and Reel; Manufacturer: On Semiconductor; PartNumber: MBRS410LT3G; Configuration: Single; IFSM Max (A): 150; DatasheetVersion: Rev. 2; PackageVersion: Rev. E, 08/2005; PackageReference: SMC-2-403-03; PackageDescription: 2-Pin Small Molded Package, J-Bend Lead, Body 5.845 x 6.855 mm; Supplier 1: Digi-Key; Supplier Part Number 1: MBRS410LT3GOSTR-ND; Supplier 2: Digi-Key; Supplier Part Number 2: MBRS410LT3GOSCT-ND; Supplier 3: Digi-Key; Supplier Part Number 3: MBRS410LT3GOSDKR-ND; Supplier 4: Farnell; Supplier Part Number 4: 1702812; Supplier 5: Newark; Supplier Part Number 5: 26K3689; Supplier 6: Mouser; Supplier Part Number 6: 863-MBRS410LT3G; Packing: Tape and Reel; RoHS: TRUE; Mounting Technology: Surface Mount; ComponentLink1Description: Manufacturer URL; ComponentLink1URL: http://www.onsemi.com/; ComponentLink2Description: Datasheet; ComponentLink2URL: http://www.onsemi.cn/pub_link/Collateral/MBRS410LT3-D.PDF; ComponentLink3Description: Package Specification; ComponentLink3URL: http://www.onsemi.com/pub_link/Collateral/403-03.PDF
footprint ONSC-SMC-2-403-03_V (Molded, 2-Leads, Body 6.86x5.84mm)
pins: 1 K, 2 A

## MBRS540T3
designator D?
Schottky Power Rectifier, 2-Pin SMC, Tape and Reel; Manufacturer: On Semiconductor; PartNumber: MBRS540T3; Configuration: Single; IFSM Max (A): 190; DatasheetVersion: Rev. 8; PackageVersion: Rev. E, 08/2005; PackageReference: SMC-2-403-03; PackageDescription: 2-Pin Small Molded Package, J-Bend Lead, Body 5.845 x 6.855 mm; Supplier 1: Digi-Key; Supplier Part Number 1: MBRS540T3OSCT-ND; Packing: Tape and Reel; RoHS: FALSE; Mounting Technology: Surface Mount; ComponentLink1Description: Manufacturer URL; ComponentLink1URL: http://www.onsemi.com/; ComponentLink2Description: Datasheet; ComponentLink2URL: http://www.onsemi.cn/pub_link/Collateral/MBRS540T3-D.PDF; ComponentLink3Description: Package Specification; ComponentLink3URL: http://www.onsemi.com/pub_link/Collateral/403-03.PDF
footprint ONSC-SMC-2-403-03_V (Molded, 2-Leads, Body 6.86x5.84mm)
pins: 1 K, 2 A

## MBRS540T3G
designator D?
Schottky Power Rectifier, 2-Pin SMC, Pb-Free, Tape and Reel; Manufacturer: On Semiconductor; PartNumber: MBRS540T3G; Configuration: Single; IFSM Max (A): 190; DatasheetVersion: Rev. 8; PackageVersion: Rev. E, 08/2005; PackageReference: SMC-2-403-03; PackageDescription: 2-Pin Small Molded Package, J-Bend Lead, Body 5.845 x 6.855 mm; Supplier 1: Digi-Key; Supplier Part Number 1: MBRS540T3GOSTR-ND; Supplier 2: Digi-Key; Supplier Part Number 2: MBRS540T3GOSCT-ND; Supplier 3: Digi-Key; Supplier Part Number 3: MBRS540T3GOSDKR-ND; Supplier 4: Farnell; Supplier Part Number 4: 2101838; Supplier 5: Farnell; Supplier Part Number 5: 2317650; Supplier 6: Farnell; Supplier Part Number 6: 2101838RL; Supplier 7: Newark; Supplier Part Number 7: 59J7644; Supplier 8: Newark; Supplier Part Number 8: 06R3468; Supplier 9: Mouser; Supplier Part Number 9: 863-MBRS540T3G; Packing: Tape and Reel; RoHS: TRUE; Mounting Technology: Surface Mount; ComponentLink1Description: Manufacturer URL; ComponentLink1URL: http://www.onsemi.com/; ComponentLink2Description: Datasheet; ComponentLink2URL: http://www.onsemi.cn/pub_link/Collateral/MBRS540T3-D.PDF; ComponentLink3Description: Package Specification; ComponentLink3URL: http://www.onsemi.com/pub_link/Collateral/403-03.PDF
footprint ONSC-SMC-2-403-03_V (Molded, 2-Leads, Body 6.86x5.84mm)
pins: 1 K, 2 A

## MBRS1100T3
designator D?
Schottky Power Rectifier, Surface Mount Power Package, 2-Pin SMB, Tape and Reel; Manufacturer: On Semiconductor; PartNumber: MBRS1100T3; Configuration: Single; IFSM Max (A): 50; DatasheetVersion: Rev. 10; PackageVersion: Rev. H, 05/2011; PackageReference: SMB-2-403A-03_H; PackageDescription: 2-Pin Small Molded Package, J-Bend Lead, Body 4.33 x 3.625 mm; Supplier 1: Digi-Key; Supplier Part Number 1: MBRS1100T3OSCT-ND; Supplier 2: Digi-Key; Supplier Part Number 2: MBRS1100T3OSDKR-ND; Packing: Tape and Reel; RoHS: FALSE; Mounting Technology: Surface Mount; ComponentLink1Description: Manufacturer URL; ComponentLink1URL: http://www.onsemi.com/; ComponentLink2Description: Datasheet; ComponentLink2URL: http://www.onsemi.cn/pub_link/Collateral/MBRS1100T3-D.PDF; ComponentLink3Description: Package Specification; ComponentLink3URL: http://www.onsemi.com/pub_link/Collateral/1SMB5913BT3-D.PDF
footprint ONSC-SMB-2-403A-03_H_V (Molded, 2-Leads, Body 4.6x3.95mm)
pins: 1 K, 2 A

## MBRS1100T3G
designator D?
Schottky Power Rectifier, Surface Mount Power Package, 2-Pin SMB, Pb-Free, Tape and Reel; Manufacturer: On Semiconductor; PartNumber: MBRS1100T3G; Configuration: Single; IFSM Max (A): 50; DatasheetVersion: Rev. 10; PackageVersion: Rev. H, 05/2011; PackageReference: SMB-2-403A-03_H; PackageDescription: 2-Pin Small Molded Package, J-Bend Lead, Body 4.33 x 3.625 mm; Supplier 1: Digi-Key; Supplier Part Number 1: MBRS1100T3GOSTR-ND; Supplier 2: Digi-Key; Supplier Part Number 2: MBRS1100T3GOSCT-ND; Supplier 3: Digi-Key; Supplier Part Number 3: MBRS1100T3GOSDKR-ND; Supplier 4: Farnell; Supplier Part Number 4: 2317670; Supplier 5: Farnell; Supplier Part Number 5: 2120143; Supplier 6: Newark; Supplier Part Number 6: 83H7270; Supplier 7: Newark; Supplier Part Number 7: 84K8738; Supplier 8: Newark; Supplier Part Number 8: 18X9803; Supplier 9: Mouser; Supplier Part Number 9: 863-MBRS1100T3G; Packing: Tape and Reel; RoHS: TRUE; Mounting Technology: Surface Mount; ComponentLink1Description: Manufacturer URL; ComponentLink1URL: http://www.onsemi.com/; ComponentLink2Description: Datasheet; ComponentLink2URL: http://www.onsemi.cn/pub_link/Collateral/MBRS1100T3-D.PDF; ComponentLink3Description: Package Specification; ComponentLink3URL: http://www.onsemi.com/pub_link/Collateral/1SMB5913BT3-D.PDF
footprint ONSC-SMB-2-403A-03_H_V (Molded, 2-Leads, Body 4.6x3.95mm)
pins: 1 K, 2 A

## MBRS1540T3
designator D?
Schottky Power Rectifier, 2-Pin SMB, Tape and Reel; Manufacturer: On Semiconductor; PartNumber: MBRS1540T3; Configuration: Single; IFSM Max (A): 40; DatasheetVersion: Rev. 3; PackageVersion: Rev. E, 08/2005; PackageReference: SMB-2-403A-03_E; PackageDescription: 2-Pin Small Molded Package, J-Bend Lead, Body 4.315 x 3.555 mm; Supplier 1: Digi-Key; Supplier Part Number 1: MBRS1540T3-ND; Packing: Tape and Reel; RoHS: FALSE; Mounting Technology: Surface Mount; ComponentLink1Description: Manufacturer URL; ComponentLink1URL: http://www.onsemi.com/; ComponentLink2Description: Datasheet; ComponentLink2URL: http://www.onsemi.cn/pub_link/Collateral/MBRS1540T3-D.PDF; ComponentLink3Description: Package Specification; ComponentLink3URL: http://www.onsemi.cn/pub_link/Collateral/MBRS1540T3-D.PDF
footprint ONSC-SMB-2-403A-03_E_V (Molded, 2-Leads, Body 4.57x3.81mm)
pins: 1 K, 2 A